# Altium footprint library mehdi2309.PcbLib: 6 footprints
Each footprint in its own frame and in the unit in brackets; x right, y up, seen from the top. Pads: shape width x height; smd on the part's side, far side on the other; paste and mask are expansions set on the pad; w line width, h text height; cw(c..) or ccw(c..) is an arc to the next point about the centre after c.
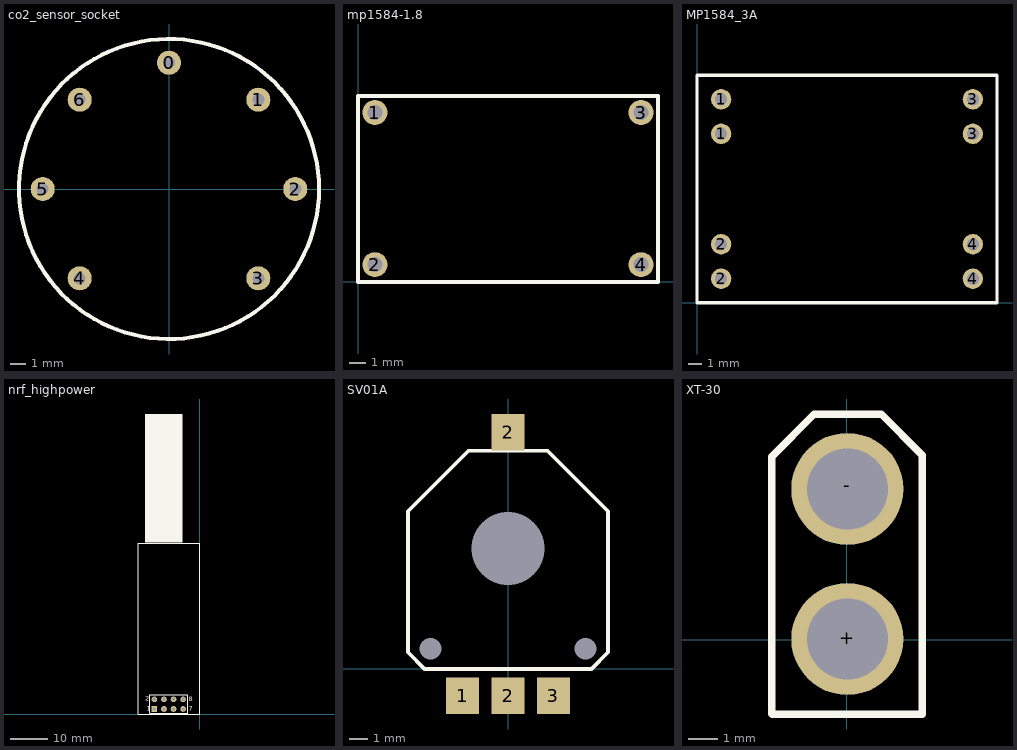
[diagram p0: the footprints below, top view; thin cyan lines are the x and y axes]

## co2_sensor_socket [mil]
pads (7):
  round 60 hole 30: 0(0,314.96) 1(222.71,222.71) 2(314.96,0) 3(222.71,-222.71) 4(-222.71,-222.71) 5(-314.96,0) 6(-222.71,222.71)
Top Overlay:
  circle w10: c0,0 r374.02

## mp1584-1.8 [mm]
pads (4):
  round 1.5 hole 0.9: 1(1.016,10.16) 2(1.016,1.016) 3(17.016,10.16) 4(17.016,1.016)
Top Overlay:
  lines w0.254: 0,-0.025 0,11.151 18.034,11.151 18.034,-0.025 0,-0.025

## MP1584_3A [mm]
pads (8):
  round 1.5 hole 0.9: 1(1.778,12.446) 1(1.778,14.986) 2(1.778,1.778) 2(1.778,4.318) 3(20.32,12.446) 3(20.32,14.986) 4(20.32,1.778) 4(20.32,4.318)
Top Overlay:
  lines w0.254: 0,0 22.098,0 22.098,16.764 0,16.764 0,0

## nrf_highpower [mm]
pads (8):
  rect 1.5x1.5 hole 0.9: 1(-12.065,1.397)
  round 1.5 hole 0.9: 2(-12.065,3.937) 3(-9.525,1.397) 4(-9.525,3.937) 5(-6.985,1.397) 6(-6.985,3.937) 7(-4.445,1.397) 8(-4.445,3.937)
Top Overlay:
  rectangle: -14.572,45.593 -4.572,79.793
  lines w0.2: -13.335,0.254 -3.175,0.254 -3.175,5.207 -13.335,5.207 -13.335,0.254
  lines w0.254: -16.383,0.059 -16.383,45.466 0,45.466 0,0.059 -16.35,0.059
  text "2" at -14.478,3.556 h1.27
  text "1" at -14.097,0.889 h1.27
  text "7" at -2.921,0.889 h1.27
  text "8" at -2.921,3.429 h1.27

## SV01A [mil]
pads (7):
  round 0 hole 47.24: 0(-167.33,43.68) 0(167.32,43.68)
  round 0 hole 157.48: 0(-0.01,260.21)
  rect 71x79 smd: 1(-98.43,-58) 2(0,-58) 2(0,512) 3(98.43,-58)
Top Overlay:
  lines w8: -216.5,36 -216.5,341 -85.5,472 -53.5,472 85.5,472 216.5,341 216.5,36 180.5,0 -180.5,0 -216.5,36
3D body "SV01A_smd.stp": height 80.71, standoff -43.11, extent -216.53,-62.61 216.54,524

## XT-30 [mm]
pads (2):
  round 3.8 hole 2.75: +(0.025,0.025) -(0.025,5.105)
Top Overlay:
  lines w0.254: -2.54,-2.515 -2.54,6.198 -1.092,7.645 1.169,7.645 2.565,6.248 2.565,-2.515 -2.514,-2.515